# EAGLE library part COUGSATBUS (library CougsInSpace)
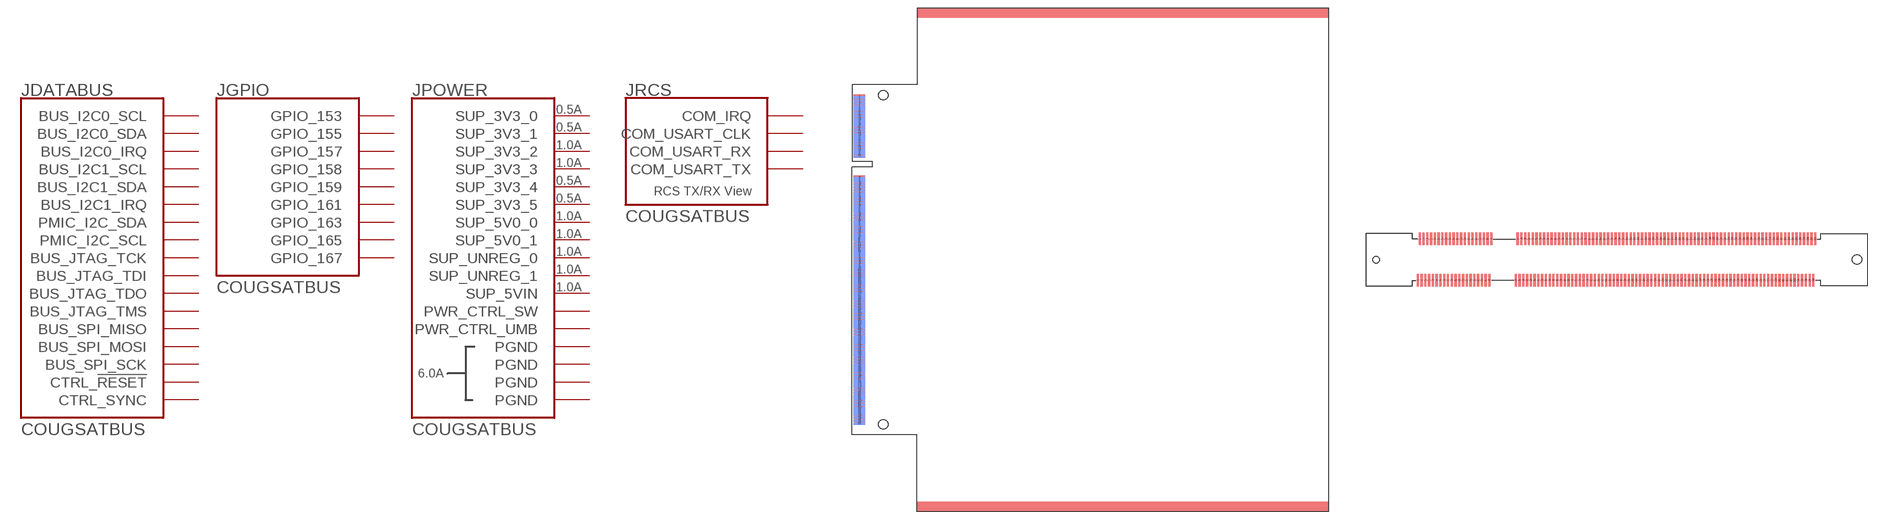
[diagram p31: symbol with the pads of COUGSATBUS_MALE-SODIMM; footprints COUGSATBUS_MALE-SODIMM, COUGSATBUS_FEMALE-SODIMM]

Designator prefix J; gates DATABUS=COUGSATBUS_BUS GPIO=COUGSATBUS_GPIO POWER=COUGSATBUS_POWER RCS=COUGSATBUS_RCS

## COUGSATBUSCARD  [COUGSATBUS_MALE-SODIMM]
1  POWER:PGND  pwr
2  POWER:SUP_3V3_0  pwr
3  POWER:PGND  pwr
4  POWER:SUP_3V3_0  pwr
5  POWER:PGND  pwr
6  POWER:SUP_3V3_0  pwr
7  POWER:PGND  pwr
8  POWER:SUP_3V3_0  pwr
9  POWER:PGND  pwr
10  POWER:SUP_3V3_0  pwr
11  POWER:PGND  pwr
12  POWER:SUP_3V3_1  pwr
13  POWER:PGND  pwr
14  POWER:SUP_3V3_1  pwr
15  POWER:PGND  pwr
16  POWER:SUP_3V3_1  pwr
17  POWER:PGND  pwr
18  POWER:SUP_3V3_1  pwr
19  POWER:PGND  pwr
20  POWER:SUP_3V3_1  pwr
21  POWER:SUP_3V3_2  pwr
22  POWER:SUP_3V3_3  pwr
23  POWER:SUP_3V3_2  pwr
24  POWER:SUP_3V3_3  pwr
25  POWER:SUP_3V3_2  pwr
26  POWER:SUP_3V3_3  pwr
27  POWER:SUP_3V3_2  pwr
28  POWER:SUP_3V3_3  pwr
29  POWER:SUP_3V3_2  pwr
30  POWER:SUP_3V3_3  pwr
31  POWER:SUP_3V3_2  pwr
32  POWER:SUP_3V3_3  pwr
33  POWER:SUP_3V3_2  pwr
34  POWER:SUP_3V3_3  pwr
35  POWER:SUP_3V3_2  pwr
36  POWER:SUP_3V3_3  pwr
37  POWER:SUP_3V3_2  pwr
38  POWER:SUP_3V3_3  pwr
39  POWER:SUP_3V3_2  pwr
40  POWER:SUP_3V3_3  pwr
41  POWER:PGND  pwr
42  POWER:SUP_3V3_4  pwr
43  POWER:PGND  pwr
44  POWER:SUP_3V3_4  pwr
45  POWER:PGND  pwr
46  POWER:SUP_3V3_4  pwr
47  POWER:PGND  pwr
48  POWER:SUP_3V3_4  pwr
49  POWER:PGND  pwr
50  POWER:SUP_3V3_4  pwr
51  POWER:PGND  pwr
52  POWER:SUP_3V3_5  pwr
53  POWER:PGND  pwr
54  POWER:SUP_3V3_5  pwr
55  POWER:PGND  pwr
56  POWER:SUP_3V3_5  pwr
57  POWER:PGND  pwr
58  POWER:SUP_3V3_5  pwr
59  POWER:PGND  pwr
60  POWER:SUP_3V3_5  pwr
61  POWER:PGND  pwr
62  POWER:SUP_5V0_0  pwr
63  POWER:PGND  pwr
64  POWER:SUP_5V0_0  pwr
65  POWER:PGND  pwr
66  POWER:SUP_5V0_0  pwr
67  POWER:PGND  pwr
68  POWER:SUP_5V0_0  pwr
69  POWER:PGND  pwr
70  POWER:SUP_5V0_0  pwr
71  POWER:SUP_5V0_1  pwr
72  POWER:SUP_5V0_0  pwr
73  POWER:SUP_5V0_1  pwr
74  POWER:SUP_5V0_0  pwr
75  POWER:SUP_5V0_1  pwr
76  POWER:SUP_5V0_0  pwr
77  POWER:SUP_5V0_1  pwr
78  POWER:SUP_5V0_0  pwr
79  POWER:SUP_5V0_1  pwr
80  POWER:SUP_5V0_0  pwr
81  POWER:SUP_5V0_1  pwr
82  POWER:PGND  pwr
83  POWER:SUP_5V0_1  pwr
84  POWER:PGND  pwr
85  POWER:SUP_5V0_1  pwr
86  POWER:PGND  pwr
87  POWER:SUP_5V0_1  pwr
88  POWER:PGND  pwr
89  POWER:SUP_5V0_1  pwr
90  POWER:PGND  pwr
91  POWER:SUP_UNREG_0  pwr
92  POWER:PGND  pwr
93  POWER:SUP_UNREG_0  pwr
94  POWER:PGND  pwr
95  POWER:SUP_UNREG_0  pwr
96  POWER:PGND  pwr
97  POWER:SUP_UNREG_0  pwr
98  POWER:PGND  pwr
99  POWER:SUP_UNREG_0  pwr
100  POWER:PGND  pwr
101  POWER:SUP_UNREG_0  pwr
102  POWER:PGND  pwr
103  POWER:SUP_UNREG_0  pwr
104  POWER:PGND  pwr
105  POWER:SUP_UNREG_0  pwr
106  POWER:PGND  pwr
107  POWER:SUP_UNREG_0  pwr
108  POWER:PGND  pwr
109  POWER:SUP_UNREG_0  pwr
110  POWER:PGND  pwr
111  POWER:SUP_UNREG_1  pwr
112  POWER:PGND  pwr
113  POWER:SUP_UNREG_1  pwr
114  POWER:PGND  pwr
115  POWER:SUP_UNREG_1  pwr
116  POWER:PGND  pwr
117  POWER:SUP_UNREG_1  pwr
118  POWER:PGND  pwr
119  POWER:SUP_UNREG_1  pwr
120  POWER:PGND  pwr
121  POWER:SUP_UNREG_1  pwr
122  POWER:PGND  pwr
123  POWER:SUP_UNREG_1  pwr
124  POWER:PGND  pwr
125  POWER:SUP_UNREG_1  pwr
126  POWER:PGND  pwr
127  POWER:SUP_UNREG_1  pwr
128  POWER:PGND  pwr
129  POWER:SUP_UNREG_1  pwr
130  POWER:PGND  pwr
131  POWER:PGND  pwr
132  POWER:PGND  pwr
133  POWER:PGND  pwr
134  POWER:PGND  pwr
135  POWER:PGND  pwr
136  POWER:PGND  pwr
137  POWER:PGND  pwr
138  POWER:PGND  pwr
139  POWER:PGND  pwr
140  POWER:PGND  pwr
141  DATABUS:BUS_SPI_SCK
142  RCS:COM_USART_TX
143  DATABUS:BUS_SPI_SCK
144  RCS:COM_USART_TX
145  DATABUS:BUS_SPI_MISO
146  RCS:COM_USART_RX
147  DATABUS:BUS_SPI_MISO
148  RCS:COM_USART_RX
149  DATABUS:BUS_SPI_MOSI
150  RCS:COM_USART_CLK
151  DATABUS:BUS_SPI_MOSI
152  RCS:COM_USART_CLK
153  GPIO:GPIO_153
154  RCS:COM_IRQ
155  GPIO:GPIO_155
156  RCS:COM_IRQ
157  GPIO:GPIO_157
158  GPIO:GPIO_158
159  GPIO:GPIO_159
160  DATABUS:BUS_I2C1_SCL
161  GPIO:GPIO_161
162  DATABUS:BUS_I2C1_SDA
163  GPIO:GPIO_163
164  DATABUS:BUS_I2C1_IRQ
165  GPIO:GPIO_165
166  POWER:PWR_CTRL_SW
167  GPIO:GPIO_167
168  POWER:PWR_CTRL_SW
169  DATABUS:BUS_I2C0_SDA
170  POWER:PWR_CTRL_UMB
171  DATABUS:BUS_I2C0_SDA
172  POWER:PWR_CTRL_UMB
173  DATABUS:BUS_I2C0_SCL
174  DATABUS:CTRL_!RESET
175  DATABUS:BUS_I2C0_SCL
176  DATABUS:CTRL_!RESET
177  DATABUS:BUS_I2C0_IRQ
178  DATABUS:CTRL_SYNC
179  DATABUS:BUS_I2C0_IRQ
180  DATABUS:CTRL_SYNC
181  DATABUS:PMIC_I2C_SDA
182  POWER:SUP_5VIN  pwr
183  DATABUS:PMIC_I2C_SCL
184  POWER:SUP_5VIN  pwr
185  DATABUS:BUS_JTAG_TCK
186  POWER:SUP_5VIN  pwr
187  DATABUS:BUS_JTAG_TCK
188  POWER:SUP_5VIN  pwr
189  DATABUS:BUS_JTAG_TDI
190  POWER:SUP_5VIN  pwr
191  DATABUS:BUS_JTAG_TDI
192  POWER:SUP_5VIN  pwr
193  DATABUS:BUS_JTAG_TDO
194  POWER:SUP_5VIN  pwr
195  DATABUS:BUS_JTAG_TDO
196  POWER:SUP_5VIN  pwr
197  DATABUS:BUS_JTAG_TMS
198  POWER:SUP_5VIN  pwr
199  DATABUS:BUS_JTAG_TMS
200  POWER:SUP_5VIN  pwr

## COUGSATBUSBACKPLANE  [COUGSATBUS_FEMALE-SODIMM]
Pads as for COUGSATBUS_MALE-SODIMM

## Footprint COUGSATBUS_MALE-SODIMM (pad centres in mm)
smd 2.3 x 0.44: 1 1.4,31.65; 3 1.4,31.05; 5 1.4,30.45; 7 1.4,29.85; 9 1.4,29.25; 11 1.4,28.65; 13 1.4,28.05; 15 1.4,27.45; 17 1.4,26.85; 19 1.4,26.25; 21 1.4,25.65; 23 1.4,25.05; 25 1.4,24.45; 27 1.4,23.85; 29 1.4,23.25; 31 1.4,22.65; 33 1.4,22.05; 35 1.4,21.45; 37 1.4,20.85; 39 1.4,20.25; 41 1.4,16.05; 43 1.4,15.45; 45 1.4,14.85; 47 1.4,14.25; 49 1.4,13.65; 51 1.4,13.05; 53 1.4,12.45; 55 1.4,11.85; 57 1.4,11.25; 59 1.4,10.65; 61 1.4,10.05; 63 1.4,9.45; 65 1.4,8.85; 67 1.4,8.25; 69 1.4,7.65; 71 1.4,7.05; 73 1.4,6.45; 75 1.4,5.85; 77 1.4,5.25; 79 1.4,4.65; 81 1.4,4.05; 83 1.4,3.45; 85 1.4,2.85; 87 1.4,2.25; 89 1.4,1.65; 91 1.4,1.05; 93 1.4,0.45; 95 1.4,-0.15; 97 1.4,-0.75; 99 1.4,-1.35; 101 1.4,-1.95; 103 1.4,-2.55; 105 1.4,-3.15; 107 1.4,-3.75; 109 1.4,-4.35; 111 1.4,-4.95; 113 1.4,-5.55; 115 1.4,-6.15; 117 1.4,-6.75; 119 1.4,-7.35; 121 1.4,-7.95; 123 1.4,-8.55; 125 1.4,-9.15; 127 1.4,-9.75; 129 1.4,-10.35; 131 1.4,-10.95; 133 1.4,-11.55; 135 1.4,-12.15; 137 1.4,-12.75; 139 1.4,-13.35; 141 1.4,-13.95; 143 1.4,-14.55; 145 1.4,-15.15; 147 1.4,-15.75; 149 1.4,-16.35; 151 1.4,-16.95; 153 1.4,-17.55; 155 1.4,-18.15; 157 1.4,-18.75; 159 1.4,-19.35; 161 1.4,-19.95; 163 1.4,-20.55; 165 1.4,-21.15; 167 1.4,-21.75; 169 1.4,-22.35; 171 1.4,-22.95; 173 1.4,-23.55; 175 1.4,-24.15; 177 1.4,-24.75; 179 1.4,-25.35; 181 1.4,-25.95; 183 1.4,-26.55; 185 1.4,-27.15; 187 1.4,-27.75; 189 1.4,-28.35; 191 1.4,-28.95; 193 1.4,-29.55; 195 1.4,-30.15; 197 1.4,-30.75; 199 1.4,-31.35
smd 2.3 x 0.44 bottom: 2 1.4,31.35; 4 1.4,30.75; 6 1.4,30.15; 8 1.4,29.55; 10 1.4,28.95; 12 1.4,28.35; 14 1.4,27.75; 16 1.4,27.15; 18 1.4,26.55; 20 1.4,25.95; 22 1.4,25.35; 24 1.4,24.75; 26 1.4,24.15; 28 1.4,23.55; 30 1.4,22.95; 32 1.4,22.35; 34 1.4,21.75; 36 1.4,21.15; 38 1.4,20.55; 40 1.4,19.95; 42 1.4,15.75; 44 1.4,15.15; 46 1.4,14.55; 48 1.4,13.95; 50 1.4,13.35; 52 1.4,12.75; 54 1.4,12.15; 56 1.4,11.55; 58 1.4,10.95; 60 1.4,10.35; 62 1.4,9.75; 64 1.4,9.15; 66 1.4,8.55; 68 1.4,7.95; 70 1.4,7.35; 72 1.4,6.75; 74 1.4,6.15; 76 1.4,5.55; 78 1.4,4.95; 80 1.4,4.35; 82 1.4,3.75; 84 1.4,3.15; 86 1.4,2.55; 88 1.4,1.95; 90 1.4,1.35; 92 1.4,0.75; 94 1.4,0.15; 96 1.4,-0.45; 98 1.4,-1.05; 100 1.4,-1.65; 102 1.4,-2.25; 104 1.4,-2.85; 106 1.4,-3.45; 108 1.4,-4.05; 110 1.4,-4.65; 112 1.4,-5.25; 114 1.4,-5.85; 116 1.4,-6.45; 118 1.4,-7.05; 120 1.4,-7.65; 122 1.4,-8.25; 124 1.4,-8.85; 126 1.4,-9.45; 128 1.4,-10.05; 130 1.4,-10.65; 132 1.4,-11.25; 134 1.4,-11.85; 136 1.4,-12.45; 138 1.4,-13.05; 140 1.4,-13.65; 142 1.4,-14.25; 144 1.4,-14.85; 146 1.4,-15.45; 148 1.4,-16.05; 150 1.4,-16.65; 152 1.4,-17.25; 154 1.4,-17.85; 156 1.4,-18.45; 158 1.4,-19.05; 160 1.4,-19.65; 162 1.4,-20.25; 164 1.4,-20.85; 166 1.4,-21.45; 168 1.4,-22.05; 170 1.4,-22.65; 172 1.4,-23.25; 174 1.4,-23.85; 176 1.4,-24.45; 178 1.4,-25.05; 180 1.4,-25.65; 182 1.4,-26.25; 184 1.4,-26.85; 186 1.4,-27.45; 188 1.4,-28.05; 190 1.4,-28.65; 192 1.4,-29.25; 194 1.4,-29.85; 196 1.4,-30.45; 198 1.4,-31.05; 200 1.4,-31.65
hole 1.8 at 6,31.8
hole 1.8 at 6,-31.8

## Footprint COUGSATBUS_FEMALE-SODIMM (pad centres in mm)
smd 0.35 x 2: 1 -31.65,-3.3; 2 -31.35,3.3; 3 -31.05,-3.3; 4 -30.75,3.3; 5 -30.45,-3.3; 6 -30.15,3.3; 7 -29.85,-3.3; 8 -29.55,3.3; 9 -29.25,-3.3; 10 -28.95,3.3; 11 -28.65,-3.3; 12 -28.35,3.3; 13 -28.05,-3.3; 14 -27.75,3.3; 15 -27.45,-3.3; 16 -27.15,3.3; 17 -26.85,-3.3; 18 -26.55,3.3; 19 -26.25,-3.3; 20 -25.95,3.3; 21 -25.65,-3.3; 22 -25.35,3.3; 23 -25.05,-3.3; 24 -24.75,3.3; 25 -24.45,-3.3; 26 -24.15,3.3; 27 -23.85,-3.3; 28 -23.55,3.3; 29 -23.25,-3.3; 30 -22.95,3.3; 31 -22.65,-3.3; 32 -22.35,3.3; 33 -22.05,-3.3; 34 -21.75,3.3; 35 -21.45,-3.3; 36 -21.15,3.3; 37 -20.85,-3.3; 38 -20.55,3.3; 39 -20.25,-3.3; 40 -19.95,3.3; 41 -16.05,-3.3; 42 -15.75,3.3; 43 -15.45,-3.3; 44 -15.15,3.3; 45 -14.85,-3.3; 46 -14.55,3.3; 47 -14.25,-3.3; 48 -13.95,3.3; 49 -13.65,-3.3; 50 -13.35,3.3; 51 -13.05,-3.3; 52 -12.75,3.3; 53 -12.45,-3.3; 54 -12.15,3.3; 55 -11.85,-3.3; 56 -11.55,3.3; 57 -11.25,-3.3; 58 -10.95,3.3; 59 -10.65,-3.3; 60 -10.35,3.3; 61 -10.05,-3.3; 62 -9.75,3.3; 63 -9.45,-3.3; 64 -9.15,3.3; 65 -8.85,-3.3; 66 -8.55,3.3; 67 -8.25,-3.3; 68 -7.95,3.3; 69 -7.65,-3.3; 70 -7.35,3.3; 71 -7.05,-3.3; 72 -6.75,3.3; 73 -6.45,-3.3; 74 -6.15,3.3; 75 -5.85,-3.3; 76 -5.55,3.3; 77 -5.25,-3.3; 78 -4.95,3.3; 79 -4.65,-3.3; 80 -4.35,3.3; 81 -4.05,-3.3; 82 -3.75,3.3; 83 -3.45,-3.3; 84 -3.15,3.3; 85 -2.85,-3.3; 86 -2.55,3.3; 87 -2.25,-3.3; 88 -1.95,3.3; 89 -1.65,-3.3; 90 -1.35,3.3; 91 -1.05,-3.3; 92 -0.75,3.3; 93 -0.45,-3.3; 94 -0.15,3.3; 95 0.15,-3.3; 96 0.45,3.3; 97 0.75,-3.3; 98 1.05,3.3; 99 1.35,-3.3; 100 1.65,3.3; 101 1.95,-3.3; 102 2.25,3.3; 103 2.55,-3.3; 104 2.85,3.3; 105 3.15,-3.3; 106 3.45,3.3; 107 3.75,-3.3; 108 4.05,3.3; 109 4.35,-3.3; 110 4.65,3.3; 111 4.95,-3.3; 112 5.25,3.3; 113 5.55,-3.3; 114 5.85,3.3; 115 6.15,-3.3; 116 6.45,3.3; 117 6.75,-3.3; 118 7.05,3.3; 119 7.35,-3.3; 120 7.65,3.3; 121 7.95,-3.3; 122 8.25,3.3; 123 8.55,-3.3; 124 8.85,3.3; 125 9.15,-3.3; 126 9.45,3.3; 127 9.75,-3.3; 128 10.05,3.3; 129 10.35,-3.3; 130 10.65,3.3; 131 10.95,-3.3; 132 11.25,3.3; 133 11.55,-3.3; 134 11.85,3.3; 135 12.15,-3.3; 136 12.45,3.3; 137 12.75,-3.3; 138 13.05,3.3; 139 13.35,-3.3; 140 13.65,3.3; 141 13.95,-3.3; 142 14.25,3.3; 143 14.55,-3.3; 144 14.85,3.3; 145 15.15,-3.3; 146 15.45,3.3; 147 15.75,-3.3; 148 16.05,3.3; 149 16.35,-3.3; 150 16.65,3.3; 151 16.95,-3.3; 152 17.25,3.3; 153 17.55,-3.3; 154 17.85,3.3; 155 18.15,-3.3; 156 18.45,3.3; 157 18.75,-3.3; 158 19.05,3.3; 159 19.35,-3.3; 160 19.65,3.3; 161 19.95,-3.3; 162 20.25,3.3; 163 20.55,-3.3; 164 20.85,3.3; 165 21.15,-3.3; 166 21.45,3.3; 167 21.75,-3.3; 168 22.05,3.3; 169 22.35,-3.3; 170 22.65,3.3; 171 22.95,-3.3; 172 23.25,3.3; 173 23.55,-3.3; 174 23.85,3.3; 175 24.15,-3.3; 176 24.45,3.3; 177 24.75,-3.3; 178 25.05,3.3; 179 25.35,-3.3; 180 25.65,3.3; 181 25.95,-3.3; 182 26.25,3.3; 183 26.55,-3.3; 184 26.85,3.3; 185 27.15,-3.3; 186 27.45,3.3; 187 27.75,-3.3; 188 28.05,3.3; 189 28.35,-3.3; 190 28.65,3.3; 191 28.95,-3.3; 192 29.25,3.3; 193 29.55,-3.3; 194 29.85,3.3; 195 30.15,-3.3; 196 30.45,3.3; 197 30.75,-3.3; 198 31.05,3.3; 199 31.35,-3.3; 200 31.65,3.3
hole 1.45 at 38.3,0
hole 1.05 at -38.3,0